# EAGLE library part JOYSTICK-16MM (library angrypig7_Library)
Joystick Potentiometer - 16mm*16mm
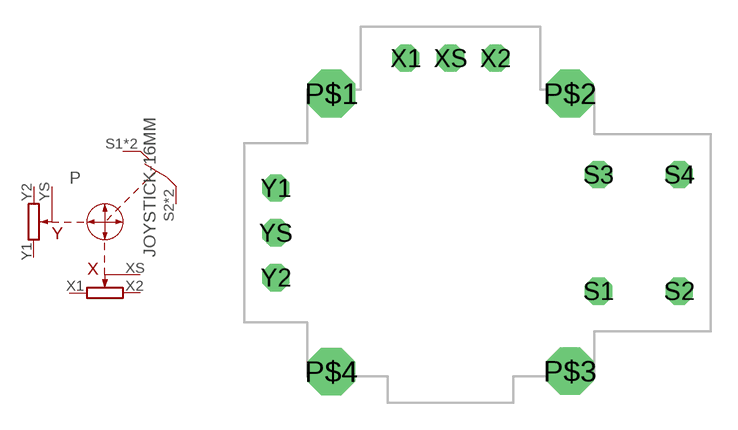
[diagram p8: symbol with the pads of JT9S-1P; footprint JT9S-1P]

Designator prefix P

## JOYSTICK-16MM  [JT9S-1P]
S1  S1  pas
S2  S2  pas
S3  S1  pas
S4  S2  pas
X1  X1  pas
X2  X2  pas
XS  XS  pas
Y1  Y1  pas
Y2  Y2  pas
YS  YS  pas

## Footprint JT9S-1P (pad centres in mm)
drill 1.778 octagon: P$1 -6.655,7.772; P$2 6.655,7.772; P$3 6.655,-7.722; P$4 -6.655,-7.747
drill 1.016 octagon: S1 8.25,-3.25; S2 12.75,-3.25; S3 8.25,3.25; S4 12.75,3.25; X1 -2.5,9.75; X2 2.5,9.75; XS 0,9.75; Y1 -9.75,2.5; Y2 -9.75,-2.5; YS -9.75,0